# Altium schematic symbol library Header-254-single-horizontal-M.SchLib: 18 symbols
Pins are listed as number, name and electrical type; pins without a type are passive.

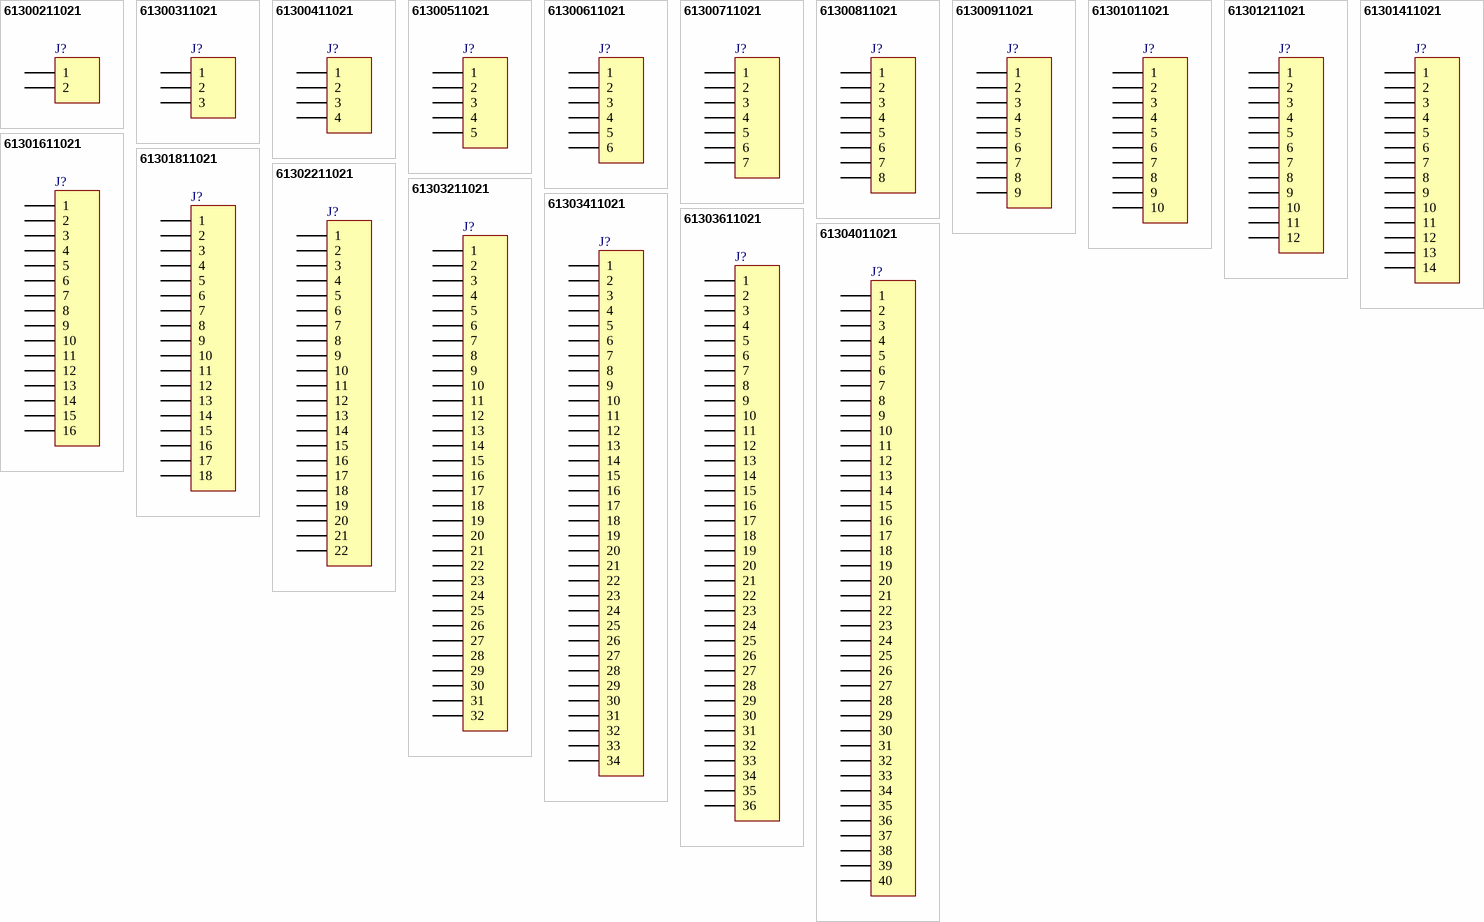
[diagram p0: symbols 61300211021 to 61304011021]

## 61300211021
designator J?, comment 02p  (value not drawn)
WR-PHD 2.54 mm THT Angled Pin Header, 02p; Part Number: 61300211021; Vendor: Wurth Elektronik; Value: 02p
footprint 61300211021
pins: 1, 2

## 61300311021
designator J?, comment 03p  (value not drawn)
WR-PHD 2.54 mm THT Angled Pin Header, 03p; Part Number: 61300311021; Vendor: Wurth Elektronik; Value: 03p
footprint 61300311021
pins: 1, 2, 3

## 61300411021
designator J?, comment 04p  (value not drawn)
WR-PHD 2.54 mm THT Angled Pin Header, 04p; Part Number: 61300411021; Vendor: Wurth Elektronik; Value: 04p
footprint 61300411021
pins: 1, 2, 3, 4

## 61300511021
designator J?, comment 05p  (value not drawn)
WR-PHD 2.54 mm THT Angled Pin Header, 05p; Part Number: 61300511021; Vendor: Wurth Elektronik; Value: 05p
footprint 61300511021
pins: 1, 2, 3, 4, 5

## 61300611021
designator J?, comment 06p  (value not drawn)
WR-PHD 2.54 mm THT Angled Pin Header, 06p; Part Number: 61300611021; Vendor: Wurth Elektronik; Value: 06p
footprint 61300611021
pins: 1, 2, 3, 4, 5, 6

## 61300711021
designator J?, comment 07p  (value not drawn)
WR-PHD 2.54 mm THT Angled Pin Header, 07p; Part Number: 61300711021; Vendor: Wurth Elektronik; Value: 07p
footprint 61300711021
pins: 1, 2, 3, 4, 5, 6, 7

## 61300811021
designator J?, comment 08p  (value not drawn)
WR-PHD 2.54 mm THT Angled Pin Header, 08p; Part Number: 61300811021; Vendor: Wurth Elektronik; Value: 08p
footprint 61300811021
pins: 1, 2, 3, 4, 5, 6, 7, 8

## 61300911021
designator J?, comment 09p  (value not drawn)
WR-PHD 2.54 mm THT Angled Pin Header, 09p; Part Number: 61300911021; Vendor: Wurth Elektronik; Value: 09p
footprint 61300911021
pins: 1, 2, 3, 4, 5, 6, 7, 8, 9

## 61301011021
designator J?, comment 10p  (value not drawn)
WR-PHD 2.54 mm THT Angled Pin Header, 10p; Part Number: 61301011021; Vendor: Wurth Elektronik; Value: 10p
footprint 61301011021
pins: 1, 2, 3, 4, 5, 6, 7, 8, 9, 10

## 61301211021
designator J?, comment 12p  (value not drawn)
WR-PHD 2.54 mm THT Angled Pin Header, 12p; Part Number: 61301211021; Vendor: Wurth Elektronik; Value: 12p
footprint 61301211021
pins: 1, 2, 3, 4, 5, 6, 7, 8, 9, 10, 11, 12

## 61301411021
designator J?, comment 14p  (value not drawn)
WR-PHD 2.54 mm THT Angled Pin Header, 14p; Part Number: 61301411021; Vendor: Wurth Elektronik; Value: 14p
footprint 61301411021
pins: 1, 2, 3, 4, 5, 6, 7, 8, 9, 10, 11, 12, 13, 14

## 61301611021
designator J?, comment 16p  (value not drawn)
WR-PHD 2.54 mm THT Angled Pin Header, 16p; Part Number: 61301611021; Vendor: Wurth Elektronik; Value: 16p
footprint 61301611021
pins: 1, 2, 3, 4, 5, 6, 7, 8, 9, 10, 11, 12, 13, 14, 15, 16

## 61301811021
designator J?, comment 18p  (value not drawn)
WR-PHD 2.54 mm THT Angled Pin Header, 18p; Part Number: 61301811021; Vendor: Wurth Elektronik; Value: 18p
footprint 61301811021
pins: 1, 2, 3, 4, 5, 6, 7, 8, 9, 10, 11, 12, 13, 14, 15, 16, 17, 18

## 61302211021
designator J?, comment 22p  (value not drawn)
WR-PHD 2.54 mm THT Angled Pin Header, 22p; Part Number: 61302211021; Vendor: Wurth Elektronik; Value: 22p
footprint 61302211021
pins: 1, 2, 3, 4, 5, 6, 7, 8, 9, 10, 11, 12, 13, 14, 15, 16, 17, 18, 19, 20, 21, 22

## 61303211021
designator J?, comment 32p  (value not drawn)
WR-PHD 2.54 mm THT Angled Pin Header, 32p; Part Number: 61303211021; Vendor: Wurth Elektronik; Value: 32p
footprint 61303211021
pins: 1, 2, 3, 4, 5, 6, 7, 8, 9, 10, 11, 12, 13, 14, 15, 16, 17, 18, 19, 20, 21, 22, 23, 24, 25, 26, 27, 28, 29, 30, 31, 32

## 61303411021
designator J?, comment 34p  (value not drawn)
WR-PHD 2.54 mm THT Angled Pin Header, 34p; Part Number: 61303411021; Vendor: Wurth Elektronik; Value: 34p
footprint 61303411021
pins: 1, 2, 3, 4, 5, 6, 7, 8, 9, 10, 11, 12, 13, 14, 15, 16, 17, 18, 19, 20, 21, 22, 23, 24, 25, 26, 27, 28, 29, 30, 31, 32, 33, 34

## 61303611021
designator J?, comment 36p  (value not drawn)
WR-PHD 2.54 mm THT Angled Pin Header, 36p; Part Number: 61303611021; Vendor: Wurth Elektronik; Value: 36p
footprint 61303611021
pins: 1, 2, 3, 4, 5, 6, 7, 8, 9, 10, 11, 12, 13, 14, 15, 16, 17, 18, 19, 20, 21, 22, 23, 24, 25, 26, 27, 28, 29, 30, 31, 32, 33, 34, 35, 36

## 61304011021
designator J?, comment 40p  (value not drawn)
WR-PHD 2.54 mm THT Angled Pin Header, 40p; Part Number: 61304011021; Vendor: Wurth Elektronik; Value: 40p
footprint 61304011021
pins: 1, 2, 3, 4, 5, 6, 7, 8, 9, 10, 11, 12, 13, 14, 15, 16, 17, 18, 19, 20, 21, 22, 23, 24, 25, 26, 27, 28, 29, 30, 31, 32, 33, 34, 35, 36, 37, 38, 39, 40